# EAGLE library part MAX9944 (library op-amp)
OP-AMP Precision, Low-Power, High-Voltage
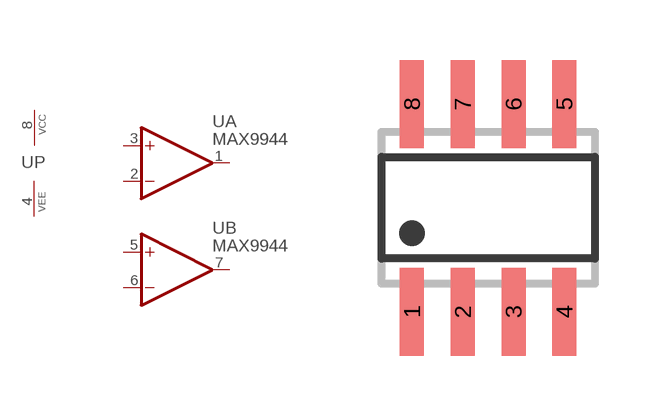
[diagram p41: symbol with the pads of SO08; footprint SO08]

Designator prefix U; gates A=OPAMP_NV B=OPAMP_NV P=PWR_VCCVEE

## MAX9944  [SO08]
1  A:OUT  out
2  A:-IN  in
3  A:+IN  in
4  P:VEE  pwr
5  B:+IN  in
6  B:-IN  in
7  B:OUT  out
8  P:VCC  pwr

## Footprint SO08 (pad centres in mm)
SMALL OUTLINE INTEGRATED CIRCUIT body 3.9 mm/JEDEC MS-012AA
smd 0.6 x 2.2: 1 -1.905,-2.6; 2 -0.635,-2.6; 3 0.635,-2.6; 4 1.905,-2.6; 5 1.905,2.6; 6 0.635,2.6; 7 -0.635,2.6; 8 -1.905,2.6